# Altium schematic symbol library LIB_ADAPTONE_PASCAL_LEMIEUX.SchLib: 12 symbols
Pins are listed as number, name and electrical type; pins without a type are passive.

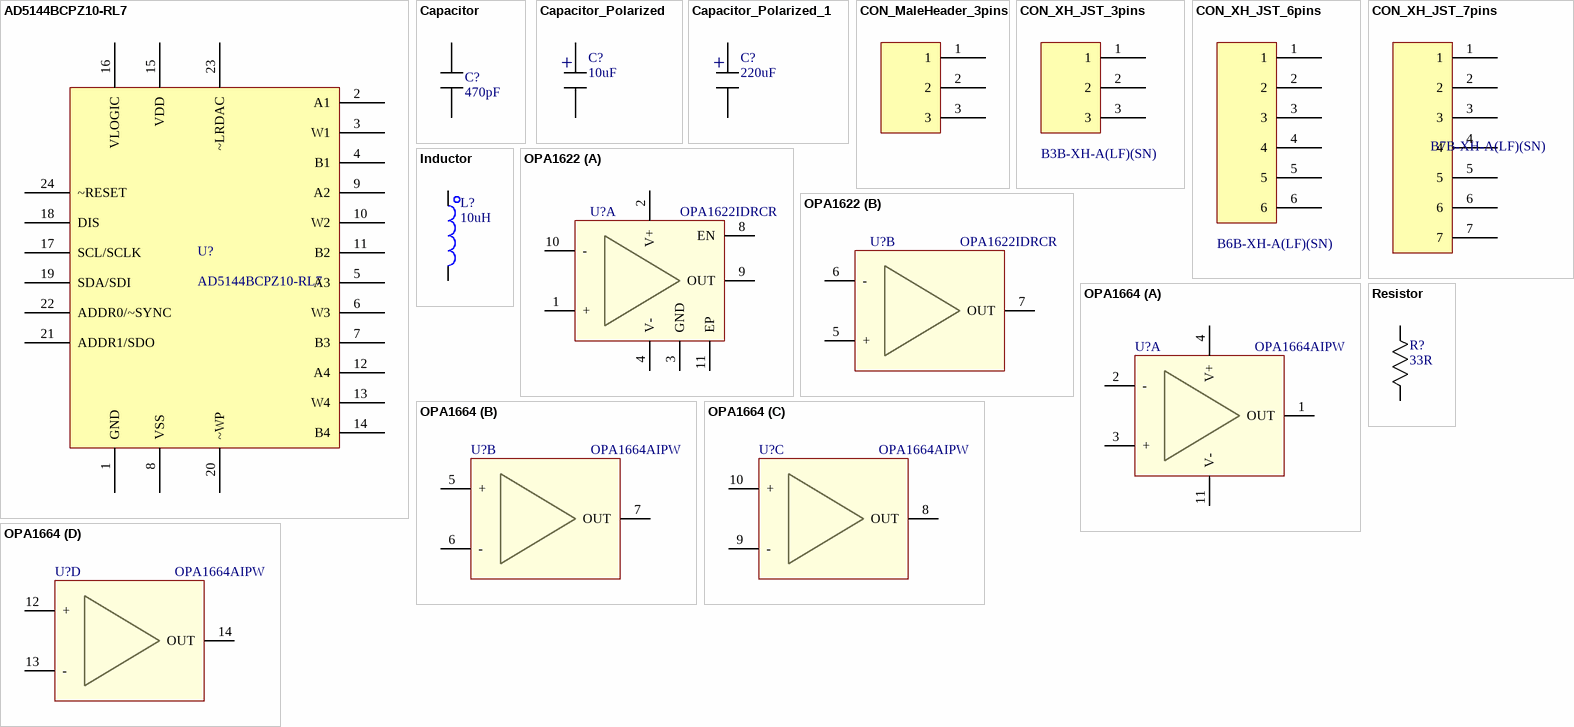
[diagram p0: symbols AD5144BCPZ10-RL7 to Resistor]

## AD5144BCPZ10-RL7
designator U?
Mfg: Analog Devices Inc.; Mfg_PN: AD5144BCPZ10-RL7; Supplier1: Digikey; Supplier1_PN: AD5144BCPZ10-RL7DKR-ND
footprint QFN50P400X400X100-25N
pins: 1 GND, 2 A1, 3 W1, 4 B1, 5 A3, 6 W3, 7  B3, 8 VSS, 9 A2, 10 W2, 11 B2, 12 A4, 13 W4, 14 B4, 15 VDD, 16 VLOGIC, 17 SCL/SCLK, 18 DIS, 19 SDA/SDI, 20 ~WP, 21 ADDR1/SDO, 22 ADDR0/~SYNC, 23 ~LRDAC, 24 ~RESET

## Capacitor
designator C?  value 470pF  (hidden comment: Capacitor)
Mfg: Samsung; Mfg_PN: CL10C471JB8NCNC; HelpURL: *; NI: *; Supplier1: Digikey; Supplier1_PN: 1276-2302-1-ND; Tolerance: *; Type: *; Rating: *
footprint 0402 (Chip Capacitor, Body 1.0x0.5mm, IPC High Density)
footprint 0603
footprint 0805
footprint 1206
pins: 1, 2

## Capacitor_Polarized
designator C?  value 10uF  (hidden comment: Capacitor_Polarized)
Capacitor; Mfg: Nichicon; Mfg_PN: UWX1C100MCL1GB; HelpURL: *; NI: *; Supplier1: Digikey; Supplier1_PN: 493-2100-1-ND; Tolerance: *; Type: *; Rating: *
footprint CAP_RAD_LS197_DIA394 (Lead spacing 0.197", Diameter 0.394")
footprint CAP_RAD_LS098_DIA315 (Lead spacing 0.098", Diameter 0.315")
footprint CAP_RAD_SMD_DIA157 (Aluminum Electrolytic Capacitor, D55 size code (UCC))
pins: +, -

## Capacitor_Polarized_1
designator C?, comment value 220uF  (hidden comment: Capacitor_Polarized)
Capacitor; Mfg: Nichicon; Mfg_PN: UWT1E221MNL1GS; HelpURL: *; NI: *; Supplier1: Digikey; Supplier1_PN: 493-2192-1-ND; Tolerance: *; Type: *; Rating: *
footprint CAP_RAD_LS197_DIA394 (Lead spacing 0.197", Diameter 0.394")
footprint CAP_RAD_LS098_DIA315 (Lead spacing 0.098", Diameter 0.315")
footprint CAP_RAD_SMD_DIA157 (Aluminum Electrolytic Capacitor, D55 size code (UCC))
footprint CAP_RAD_SMD_DIA315 (Aluminum Electrolytic Capacitor, 8mm diameter)
pins: +, -

## CON_MaleHeader_3pins
designator J?  (value not drawn)
Supplier1: Digikey
pins: 1, 2, 3

## CON_XH_JST_3pins
designator J?  Mfg_PN: B3B-XH-A(LF)(SN)  (hidden comment: *)
Mfg: JST Sales America Inc.; Supplier1: Digikey
pins: 1, 2, 3

## CON_XH_JST_6pins
designator J?  Mfg_PN: B6B-XH-A(LF)(SN)  (hidden comment: *)
Mfg: JST Sales America Inc.; Supplier1: Digikey
footprint CONN_6_HEADER
pins: 1, 2, 3, 4, 5, 6

## CON_XH_JST_7pins
designator J?, comment B7B-XH-A(LF)(SN)
Mfg: JST Sales America Inc.; Supplier1: Digikey; Mfg_PN: B7B-XH-A(LF)(SN)
footprint CONN_7_HEADER
pins: 1, 2, 3, 4, 5, 6, 7

## Inductor
designator L?  value 10uH  (hidden comment: Inductor)
Mfg: Murata; Mfg_PN: DFE252012F-100M=P2; HelpURL: *; NI: *; Rating: *; Tolerance: *; Supplier1: Digikey; Supplier1_PN: 490-13050-1-ND
footprint IND_252012CDMC/DS
footprint IND_SRN4018
footprint IND_SRR5028 (Chip Inductor (non-standard)
footprint 0603 (Chip Resistor, 2-Leads, Body 1,5x0,8mm, IPC Medium Density)
footprint IND_SDE1006A (SMT inductor)
footprint IND_TYS6045 (SMT inductor)
footprint IND_TYS8040 (SMT inductor)
footprint 1210 (Chip Resistor, 2-Leads, Body 3,2x2,5mm, IPC Medium Density)
footprint TAIYO_NR6020
pins: 1, 2

## OPA1622
designator U?  Mfg_PN: OPA1622IDRCR  (hidden comment: OPA1622)
Dual amplifier (headphone driver); Mfg: Texas Instruments; HelpURL: *; NI: *; Rating: *; Supplier1: Digikey; Supplier1_PN: 296-45038-1-ND; Tolerance: *; Value: *
footprint 10-VFDFN
part A pins: 1 +, 2 V+, 3 GND, 4 V-, 8 EN, 9 OUT, 10 -, 11 EP
part B pins: 5 +, 6 -, 7 OUT

## OPA1664
designator U?  Mfg_PN: OPA1664AIPW  (hidden comment: OPA1664)
Quad amplifier (audio); Mfg: Texas Instruments; HelpURL: *; NI: *; Rating: *; Supplier1: Digikey; Supplier1_PN: 296-34981-ND; Tolerance: *; Value: *
footprint 14-TSSOP
part A pins: 1 OUT, 2 -, 3 +, 4 V+, 11 V-
part B pins: 5 +, 6 -, 7 OUT
part C pins: 8 OUT, 9 -, 10 +
part D pins: 12 +, 13 -, 14 OUT

## Resistor
designator R?  value 33R  (hidden comment: Resistor)
Mfg: Yageo; Mfg_PN: RC0603JR-0733RL; HelpURL: *; NI: *; Supplier1: Digikey; Supplier1_PN: 311-33GRCT-ND; Type: *; Rating: *; Tolerance: *
footprint 0603
footprint 0805
footprint 1206
footprint 0402 (Chip Capacitor, Body 1.0x0.5mm, IPC High Density)
pins: 1, 2